# Altium footprint library ESC.PcbLib: 30 footprints (part 1 of 2)
Each footprint in its own frame and in the unit in brackets; x right, y up, seen from the top. Pads: shape width x height; smd on the part's side, far side on the other; paste and mask are expansions set on the pad; w line width, h text height; cw(c..) or ccw(c..) is an arc to the next point about the centre after c.
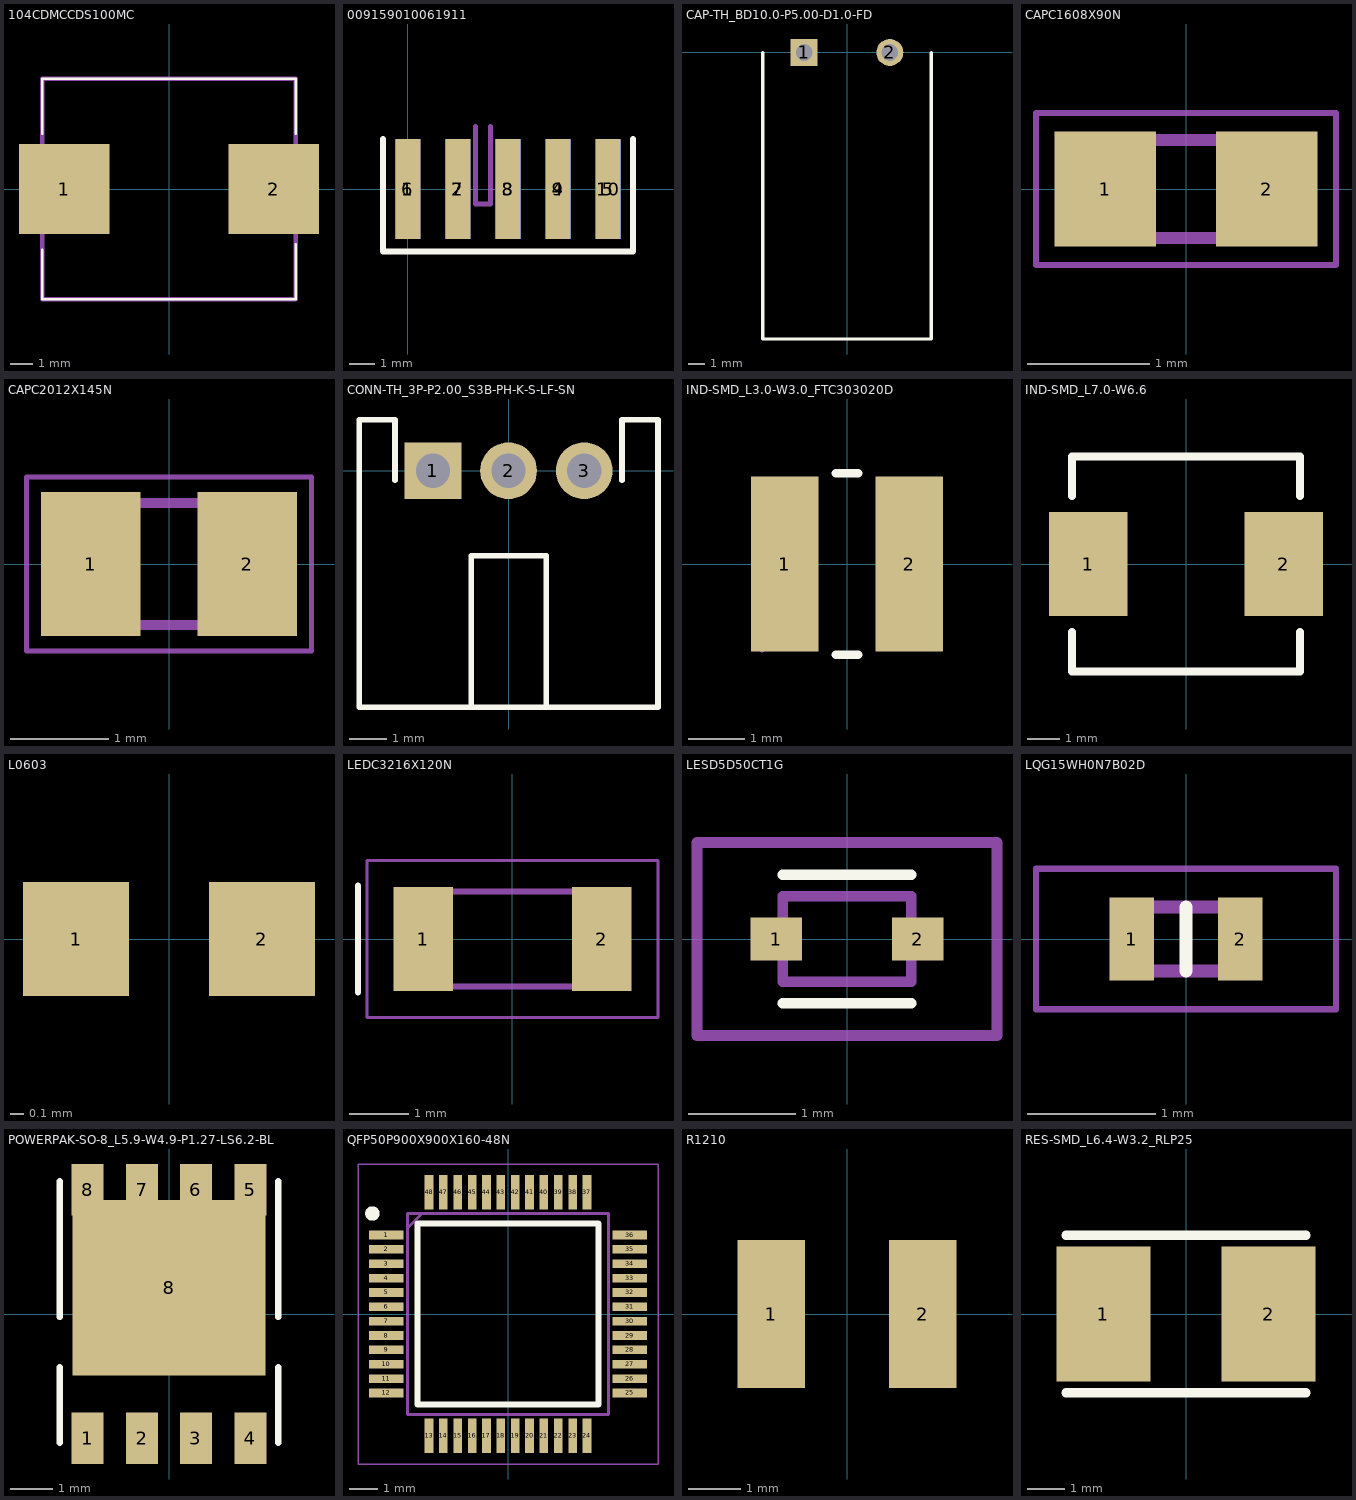
[diagram p0: the footprints below, top view; thin cyan lines are the x and y axes]

## 104CDMCCDS100MC [mm]
pads (2):
  rect 4.1x4.1 smd: 1(-4.75,0) 2(4.75,0)
Top Overlay:
  lines w0.1: -5.75,-5 -5.75,-2.75 -5.75,-5 ; -5.75,-5 5.75,-5 ; -5.75,-5 5.75,-5 ; -5.75,5 5.75,5 ; -5.75,5 5.75,5 ; -5.75,5 -5.75,2.5 -5.75,5 ; 5.75,-5 5.75,-2.5 5.75,-5 ; 5.75,5 5.75,2.5 5.75,5
Mechanical 13:
  lines w0.2: -5.75,-5 -5.75,5 5.75,5 5.75,-5 -5.75,-5
3D body "104CDMCCDS-100MC.stp": height 4.1, standoff 0, extent -6.39,-5 6.39,5

## 009159010061911 [mm]
pads (10):
  rect 1x4 smd: 1(0,0) 2(2,0) 3(4,0) 4(6,0) 5(8,0)
  rect 1x4 smd far side: 6(0,0) 7(2,0) 8(4,0) 9(6,0) 10(8,0)
Top Overlay:
  lines w0.254: -1,2 -1,-2.5 9,-2.5 9,2
Bottom Overlay:
  lines w0.254: -1,2 -1,-2.5 9,-2.5 9,2
Mechanical 13:
  lines w0.2: 2.7,2.5 2.7,-0.6 3.3,-0.6 3.3,2.5

## CAP-TH_BD10.0-P5.00-D1.0-FD [mm]
pads (2):
  rect 1.6x1.6 hole 1: 1(-2.54,0)
  round 1.6 hole 1: 2(2.54,0)
Top Overlay:
  lines w0.2: -5,0 -5,-17 5,-17 5,0
Mechanical 6:
  circle w0.3: c-2.54,0 r0.15
  circle w0.3: c2.54,0 r0.15
3D body "CAP-TH_D10.0-H16.0-P5.00.step": height 10, standoff 0, extent -5,-16.91 5,2.5

## CAPC1608X90N [mm]
pads (2):
  rect 0.83x0.94 smd: 1(-0.66,0) 2(0.66,0)
Mechanical 13:
  lines w0.1: -0.8,-0.4 0.8,-0.4 0.8,0.4 -0.8,0.4 -0.8,-0.4
Mechanical 15:
  lines w0.05: -1.225,-0.62 1.225,-0.62 1.225,0.62 -1.225,0.62 -1.225,-0.62
3D body "CC0603KRX7R9BB104.stp": height 0.9, standoff 0, extent -0.8,-0.4 0.8,0.4

## CAPC2012X145N [mm]
pads (2):
  rect 1.02x1.47 smd: 1(-0.8,0) 2(0.8,0)
Mechanical 13:
  lines w0.1: -1,-0.625 1,-0.625 1,0.625 -1,0.625 -1,-0.625
Mechanical 15:
  lines w0.05: -1.46,-0.89 1.46,-0.89 1.46,0.89 -1.46,0.89 -1.46,-0.89
3D body "CC0805MKX5R8BB226.stp": height 1.45, standoff 0, extent -1,-0.625 1,0.625

## CONN-TH_3P-P2.00_S3B-PH-K-S-LF-SN [mm]
pads (3):
  rect 1.5x1.5 hole 0.9: 1(-2,0)
  round 1.5 hole 0.9: 2(0,0) 3(2,0)
Top Overlay:
  lines w0.15: -3,-0.25 -3,1.35 -3.95,1.35 -3.95,-6.25 3.95,-6.25 3.95,1.35 3,1.35 3,-0.25 ; -0.99,-6.25 -0.99,-2.25 1,-2.25 1,-6.25
Mechanical 6:
  circle w0.06: c-3.95,-6.25 r0.03
3D body "CONN-TH_3P-P2.00_S3B-PH-K-S-LF-SN.step": height 4.8, standoff -3.4, extent -3.95,-6.175 3.951,1.425

## IND-SMD_L3.0-W3.0_FTC303020D [mm]
pads (2):
  rect 1.2x3.1 smd: 1(-1.1,0) 2(1.1,0)
Top Overlay:
  lines w0.15: -0.2,-1.6 0.2,-1.6 ; -0.2,1.6 0.2,1.6
Mechanical 6:
  circle w0.06: c-1.5,-1.5 r0.03
3D body "IND-SMD_L3.0-W3.0_FTC303020D.step": height 2, standoff -0.02, extent -1.5,-1.5 1.5,1.51

## IND-SMD_L7.0-W6.6 [mm]
pads (2):
  rect 2.4x3.2 smd: 1(-3,0) 2(3,0)
Top Overlay:
  lines w0.25: -3.5,-2.08 -3.5,-3.3 -3.49,-3.3 3.5,-3.3 3.5,-2.08 ; -3.5,2.09 -3.5,3.3 3.48,3.3 ; 3.5,2.09 3.5,3.3
3D body "IND-SMD_L7.0-W6.6-H3.0.step": height 3.1, standoff 0, extent -3.5,-3.3 3.5,3.301

## L0603 [mm]
pads (2):
  rect 0.8x0.86 smd: 1(-0.7,0) 2(0.7,0)
3D body "L0603_L1.6-W0.8-H0.5_BEAD.step": height 0.5, standoff 0, extent -0.8,-0.4 0.8,0.4

## LEDC3216X120N [mm]
pads (2):
  rect 1x1.75 smd: 1(-1.5,0) 2(1.5,0)
Top Overlay:
  lines w0.1: -2.6,-0.9 -2.6,0.9
Mechanical 13:
  lines w0.1: -1.6,0.267 -1.067,0.8 ; -1.6,-0.8 -1.6,0.8 1.6,0.8 1.6,-0.8 -1.6,-0.8
Mechanical 15:
  lines w0.05: -2.45,-1.325 -2.45,1.325 2.45,1.325 2.45,-1.325 -2.45,-1.325
3D body "LTST-C150GKT.stp": height 1.1, standoff 0, extent -1.63,-0.8 1.57,0.8

## LESD5D50CT1G [mm]
pads (2):
  rect 0.48x0.4 smd: 1(-0.66,0) 2(0.66,0)
Top Overlay:
  lines w0.1: -0.6,-0.6 0.6,-0.6 ; -0.6,0.6 0.6,0.6
Mechanical 13:
  lines w0.1: -0.6,-0.4 -0.6,0.4 0.6,0.4 0.6,-0.4 -0.6,-0.4
Mechanical 15:
  lines w0.1: -1.4,-0.9 -1.4,0.9 1.4,0.9 1.4,-0.9 -1.4,-0.9
3D body "LESD5D5.0CT1G.stp": height 0.6, standoff 0, extent -0.8,-0.399 0.8,0.399

## LQG15WH0N7B02D [mm]
pads (2):
  rect 0.35x0.65 smd: 1(-0.425,0) 2(0.425,0)
Top Overlay:
  lines w0.1: 0,-0.25 0,0.25
Mechanical 13:
  lines w0.1: -0.5,-0.25 -0.5,0.25 0.5,0.25 0.5,-0.25 -0.5,-0.25
Mechanical 15:
  lines w0.05: -1.175,-0.55 -1.175,0.55 1.175,0.55 1.175,-0.55 -1.175,-0.55
3D body "LQG15HN10NJ02D.stp": height 0.55, standoff 0, extent -0.5,-0.25 0.5,0.25

## POWERPAK-SO-8_L5.9-W4.9-P1.27-LS6.2-BL [mm]
pads (9):
  rect 0.75x1.2 smd: 1(-1.9,-2.9) 2(-0.63,-2.9) 3(0.63,-2.9) 4(1.9,-2.9) 5(1.9,2.9) 6(0.63,2.9) 7(-0.63,2.9) 8(-1.9,2.9)
  rect 4.5x4.1 smd: 8(0,0.61)
Top Overlay:
  lines w0.15: -2.55,-3 -2.55,-1.24 ; -2.55,-0.07 -2.55,3.1 ; 2.55,-3 2.55,-1.24 ; 2.55,-0.07 2.55,3.1
3D body "POWERPAK-SO-8_L5.9-W4.9-P1.27-LS6.2-BL.step": height 1.06, standoff 0.01, extent -2.575,-3.075 2.575,3.075

## QFP50P900X900X160-48N [mm]
pads (48):
  rect 1.2x0.3 smd: 1(-4.238,2.75) 2(-4.238,2.25) 3(-4.238,1.75) 4(-4.238,1.25) 5(-4.238,0.75) 6(-4.238,0.25) 7(-4.238,-0.25) 8(-4.238,-0.75) 9(-4.238,-1.25) 10(-4.238,-1.75) 11(-4.238,-2.25) 12(-4.238,-2.75) 25(4.238,-2.75) 26(4.238,-2.25) 27(4.238,-1.75) 28(4.238,-1.25) 29(4.238,-0.75) 30(4.238,-0.25) 31(4.238,0.25) 32(4.238,0.75) 33(4.238,1.25) 34(4.238,1.75) 35(4.238,2.25) 36(4.238,2.75)
  rect 0.3x1.2 smd: 13(-2.75,-4.238) 14(-2.25,-4.238) 15(-1.75,-4.238) 16(-1.25,-4.238) 17(-0.75,-4.238) 18(-0.25,-4.238) 19(0.25,-4.238) 20(0.75,-4.238) 21(1.25,-4.238) 22(1.75,-4.238) 23(2.25,-4.238) 24(2.75,-4.238) 37(2.75,4.238) 38(2.25,4.238) 39(1.75,4.238) 40(1.25,4.238) 41(0.75,4.238) 42(0.25,4.238) 43(-0.25,4.238) 44(-0.75,4.238) 45(-1.25,4.238) 46(-1.75,4.238) 47(-2.25,4.238) 48(-2.75,4.238)
Top Overlay:
  circle w0.25: c-4.725,3.5 r0.125
  lines w0.2: -3.15,-3.15 -3.15,3.15 3.15,3.15 3.15,-3.15 -3.15,-3.15
Mechanical 13:
  lines w0.1: -3.5,3 -3,3.5 ; -3.5,-3.5 -3.5,3.5 3.5,3.5 3.5,-3.5 -3.5,-3.5
Mechanical 15:
  lines w0.05: -5.225,-5.225 -5.225,5.225 5.225,5.225 5.225,-5.225 -5.225,-5.225
3D body "STM32G431CBT6.stp": height 1.6, standoff 0, extent -4.5,-4.5 4.5,4.5

## R1210 [mm]
pads (2):
  rect 1.28x2.81 smd: 1(-1.44,0) 2(1.44,0)
3D body "R1210_L3.2-W2.6-H0.6.step": height 0.55, standoff 0, extent -1.55,-1.3 1.55,1.301

## RES-SMD_L6.4-W3.2_RLP25 [mm]
pads (2):
  rect 2.5x3.6 smd: 1(-2.2,0) 2(2.2,0)
Top Overlay:
  lines w0.25: -3.2,-2.1 3.2,-2.1 ; -3.2,2.1 3.2,2.1
Mechanical 6:
  circle w0.06: c-3.2,-1.6 r0.03
3D body "RES-SMD_L6.4-W3.2-H0.7.step": height 0.54, standoff -0.16, extent -3.2,-1.6 3.2,1.6